# EAGLE library part 5050_LED (library leds)
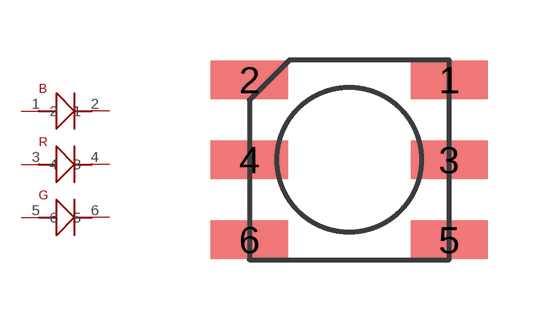
[diagram p0: symbol with the pads of 5050_LED; footprint 5050_LED]

Designator prefix -

## 5050_LED  [5050_LED]
1  1
2  2
3  3
4  4
5  5
6  6

## Footprint 5050_LED (pad centres in mm)
smd 1.93 x 0.965: 1 2.5,2; 2 -2.5,2; 3 2.5,0; 4 -2.5,0; 5 2.5,-2; 6 -2.5,-2